# EAGLE library part POWER_LM2734 (library small_mavric)
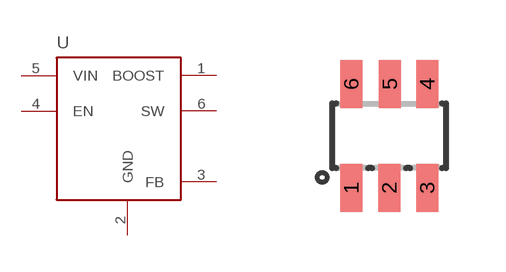
[diagram p0: symbol with the pads of POWER_SOT23-6; footprint POWER_SOT23-6]

Designator prefix -

## POWER_LM2734 (DISTRIBUTOR: Digikey; ORDER_CODE: LM2734ZMK/NOPBCT-ND; PLACE_PART: YES)  [POWER_SOT23-6]
1  BOOST
2  GND
3  FB
4  EN
5  VIN
6  SW

## Footprint POWER_SOT23-6 (pad centres in mm)
Small Outline Transistor
smd 0.55 x 1.2: 1 -0.95,-1.3; 2 0,-1.3; 3 0.95,-1.3; 4 0.95,1.3; 5 0.015,1.3; 6 -0.95,1.3